# EAGLE library part E22-400T30D (library CRD)
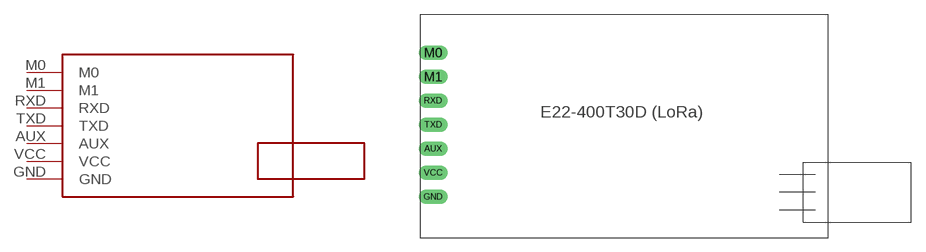
[diagram p9: symbol with the pads of E22-400T30D_FOOTPRINT; footprint E22-400T30D_FOOTPRINT]

Designator prefix -

## E22-400T30D  [E22-400T30D_FOOTPRINT]
AUX  AUX
GND  GND
M0  M0
M1  M1
RXD  RXD
TXD  TXD
VCC  VCC

## Footprint E22-400T30D_FOOTPRINT (pad centres in mm)
drill 1.016 long: AUX -16.383,-0.762; GND -16.383,-5.842; M0 -16.383,9.398; M1 -16.383,6.858; RXD -16.383,4.318; TXD -16.383,1.778; VCC -16.383,-3.302